# EAGLE library part HEADER_6P (library Bauteile)
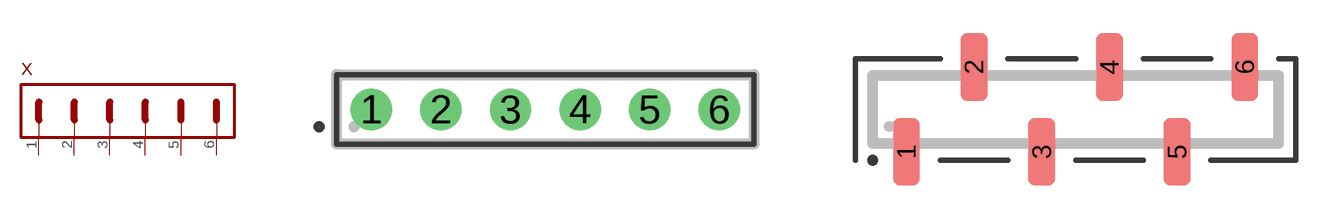
[diagram p5: symbol with the pads of HEADER_6P_1ROW_RM2.54MM_THT; footprints HEADER_6P_1ROW_RM2.54MM_THT, HEADER_6P_1ROW_RM2.54MM_SMD]

Designator prefix X

## HEADER_6P(RM2.54MM_THT)  [HEADER_6P_1ROW_RM2.54MM_THT]
1  PIN1
2  PIN2
3  PIN3
4  PIN4
5  PIN5
6  PIN6

## HEADER_6P(RM2.54MM_SMD)  [HEADER_6P_1ROW_RM2.54MM_SMD]
Pads as for HEADER_6P_1ROW_RM2.54MM_THT

## HEADER_6P(RM2.54MM_2ROW_THT)  [HEADER_6P_2ROW_RM2.54MM_THT]
Pads as for HEADER_6P_1ROW_RM2.54MM_THT

## HEADER_6P(JST-XH)  [JST-XH_6]
Pads as for HEADER_6P_1ROW_RM2.54MM_THT

## HEADER_6P(BOXHEADER)  [BOXHEADER_6]
Pads as for HEADER_6P_1ROW_RM2.54MM_THT

## HEADER_6P(RM2.54MM_2ROW_SMD) (ID: 61000621121)  [HEADER_6P_2ROW_RM2.54MM_SMD]
Pads as for HEADER_6P_1ROW_RM2.54MM_THT

## HEADER_6P(MOLEX_ONEBLADE_1MM) (ID: 214094-0060)  [MOLEX_ONEBLADE_1MM_214094-0060]
Pads as for HEADER_6P_1ROW_RM2.54MM_THT

## HEADER_6P(DEUTSCH-DT) (ID: DT15-6P)  [DT15-06P]
Pads as for HEADER_6P_1ROW_RM2.54MM_THT

## HEADER_6P(MOLEX_MICROFIT_3.0_ANGLED) (ID: 43045-0600)  [MOLEX_MICROFIT_3.0_43045-0600]
Pads as for HEADER_6P_1ROW_RM2.54MM_THT

## HEADER_6P(MOLEX_MICROFIT_3.0_VERTICAL) (ID: 43045-0612)  [MOLEX_MICROFIT_3.0_43045-0612]
Pads as for HEADER_6P_1ROW_RM2.54MM_THT

## HEADER_6P(MOLEX_MICROFIT_3.0_1ROW_ANGLED) (ID: 43650-0600)  [MOLEX_MICROFIT_3.0_43650-0600]
Pads as for HEADER_6P_1ROW_RM2.54MM_THT

## HEADER_6P(MOLEX_52271-0679) (ID: 52271-0679)  [FPC_6_MOLEX_52271-0679]
Pads as for HEADER_6P_1ROW_RM2.54MM_THT

## Footprint HEADER_6P_1ROW_RM2.54MM_THT (pad centres in mm)
drill 1: 1 -6.35,0; 2 -3.81,0; 3 -1.27,0; 4 1.27,0; 5 3.81,0; 6 6.35,0

## Footprint HEADER_6P_1ROW_RM2.54MM_SMD (pad centres in mm)
smd 1 x 2.54: 1 -6.35,-1.587; 2 -3.81,1.587; 3 -1.27,-1.587; 4 1.27,1.587; 5 3.81,-1.587; 6 6.35,1.587

## Footprint HEADER_6P_2ROW_RM2.54MM_THT (pad centres in mm)
drill 1: 1 -2.54,-1.27; 2 -2.54,1.27; 3 0,-1.27; 4 0,1.27; 5 2.54,-1.27; 6 2.54,1.27

## Footprint JST-XH_6 (pad centres in mm)
drill 1: 1 -6.35,0; 2 -3.81,0; 3 -1.27,0; 4 1.27,0; 5 3.81,0; 6 6.35,0

## Footprint BOXHEADER_6 (pad centres in mm)
drill 1: 1 2.54,1.27; 2 2.54,-1.27; 3 0,1.27; 4 0,-1.27; 5 -2.54,1.27; 6 -2.54,-1.27

## Footprint HEADER_6P_2ROW_RM2.54MM_SMD (pad centres in mm)
smd 1 x 3.1: 1 -2.54,-2.7; 2 -2.54,2.7; 3 0,-2.7; 4 0,2.7; 5 2.54,-2.7; 6 2.54,2.7

## Footprint MOLEX_ONEBLADE_1MM_214094-0060 (pad centres in mm)
smd 0.6 x 1.5: 1 -2.5,-2.175; 2 -1.5,-2.175; 3 -0.5,-2.175; 4 0.5,-2.175; 5 1.5,-2.175; 6 2.5,-2.175
smd 1.15 x 1.85: MECH1 -4.075,0; MECH2 4.075,0

## Footprint DT15-06P (pad centres in mm)
drill 1.88: 1 -4.56,-4.445; 2 -4.56,0; 3 -4.56,4.445; 4 4.56,4.445; 5 4.56,0; 6 4.56,-4.445
hole 3.5 at -10.67,8.65
hole 3.5 at 10.67,8.65
hole 3.5 at -10.67,-8.65
hole 3.5 at 10.67,-8.65

## Footprint MOLEX_MICROFIT_3.0_43045-0600 (pad centres in mm)
drill 1.1: 1 3,-1.5; 2 0,-1.5; 3 -3,-1.5; 4 3,1.5; 5 0,1.5; 6 -3,1.5
hole 3 at 0,-5.82

## Footprint MOLEX_MICROFIT_3.0_43045-0612 (pad centres in mm)
drill 1.1: 1 3,-1.5; 2 0,-1.5; 3 -3,-1.5; 4 3,1.5; 5 0,1.5; 6 -3,1.5
hole 1.1 at -6,2.44
hole 1.1 at 6,2.44

## Footprint MOLEX_MICROFIT_3.0_43650-0600 (pad centres in mm)
drill 1.1: 1 7.5,0; 2 4.5,0; 3 1.5,0; 4 -1.5,0; 5 -4.5,0; 6 -7.5,0
hole 3 at -5.35,-4.32
hole 3 at 5.35,-4.32

## Footprint FPC_6_MOLEX_52271-0679 (pad centres in mm)
smd 0.6 x 1.9: 1 -2.5,2.35; 2 -1.5,2.35; 3 -0.5,2.35; 4 0.5,2.35; 5 1.5,2.35; 6 2.5,2.35
smd 2.1 x 2.8: MECH1 -5.65,0; MECH2 5.65,0